# EAGLE library part PINHD-2X8 (library laforge)
PIN HEADER
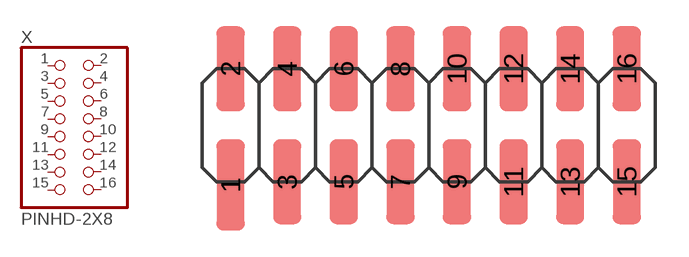
[diagram p42: symbol with the pads of 2X08_SMD_180; footprint 2X08_SMD_180]

Designator prefix X

## PINHD-2X8  [2X08_SMD_180]
1  1  pas
2  2  pas
3  3  pas
4  4  pas
5  5  pas
6  6  pas
7  7  pas
8  8  pas
9  9  pas
10  10  pas
11  11  pas
12  12  pas
13  13  pas
14  14  pas
15  15  pas
16  16  pas

## Footprint 2X08_SMD_180 (pad centres in mm)
smd 1.27 x 4.1: 1 -7.62,-2.68
smd 1.27 x 3.81: 2 -7.62,2.54; 3 -5.08,-2.54; 4 -5.08,2.54; 5 -2.54,-2.54; 6 -2.54,2.54; 7 0,-2.54; 8 0,2.54; 9 2.54,-2.54; 10 2.54,2.54; 11 5.08,-2.54; 12 5.08,2.54; 13 7.62,-2.54; 14 7.62,2.54; 15 10.16,-2.54; 16 10.16,2.54